# Altium footprint library PCB1_1.PcbLib: 20 footprints (part 2 of 2)
Each footprint in its own frame and in the unit in brackets; x right, y up, seen from the top. Pads: shape width x height; smd on the part's side, far side on the other; paste and mask are expansions set on the pad; w line width, h text height; cw(c..) or ccw(c..) is an arc to the next point about the centre after c.
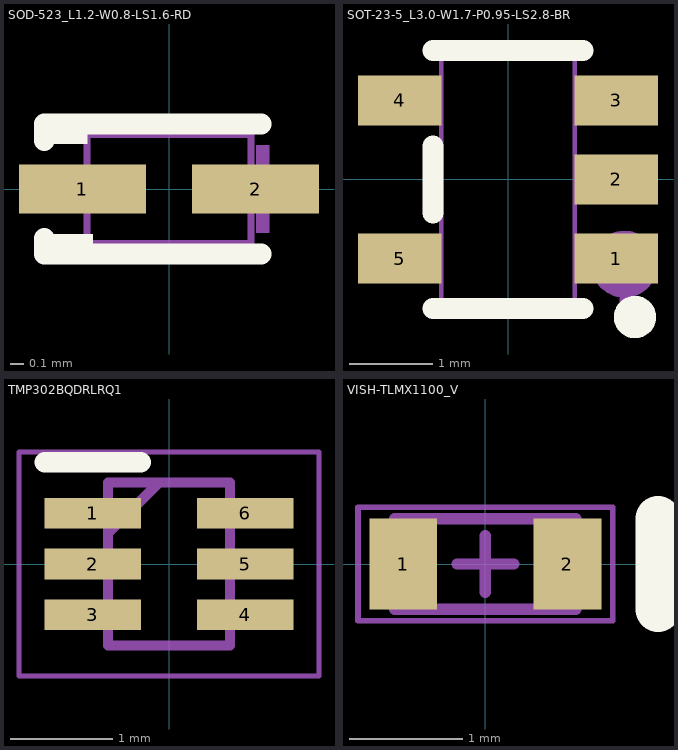
[diagram p1: the footprints below, top view; thin cyan lines are the x and y axes]

## SOD-523_L1.2-W0.8-LS1.6-RD [mm]
height 0.5
pads (2):
  rect 0.93x0.36 smd: 1(-0.635,0) 2(0.635,0)
Top Overlay:
  region: -0.6,0.552 -0.6,0.332 -0.905,0.332 -0.905,0.552
  region: -0.56,-0.552 -0.56,-0.332 -0.864,-0.332 -0.864,-0.552
  lines w0.152: -0.914,-0.363 -0.914,-0.476 -0.676,-0.476 0.676,-0.476 ; -0.914,0.356 -0.914,0.476 -0.676,0.476 0.676,0.476
Mechanical 6:
  region: -0.887,0.055 -0.887,-0.041 -0.503,-0.041 -0.503,0.055
  region: 0.88,0.048 0.88,-0.048 0.496,-0.048 0.496,0.048
  region: 0.736,0.32 0.736,-0.32 0.64,-0.32 0.64,0.32
Mechanical 15:
  region: -0.74,-0.4 -0.74,-0.376 -0.775,-0.341 -0.824,-0.341 -0.859,-0.375 -0.86,-0.4 -0.859,-0.424 -0.825,-0.459 -0.776,-0.459 -0.741,-0.424 -0.74,-0.4
  region: -0.8,-0.15 -0.8,0.15 -0.2,0.15 -0.2,-0.15
  region: 0.8,-0.15 0.8,0.15 0.2,0.15 0.2,-0.15
  lines w0.051: -0.6,-0.4 -0.6,0.4 0.6,0.4 0.6,-0.4 -0.6,-0.4

## SOT-23-5_L3.0-W1.7-P0.95-LS2.8-BR [mm]
height 0.5
pads (5):
  rect 1x0.6 smd: 1(1.3,-0.95) 2(1.3,0) 3(1.3,0.95) 4(-1.3,0.95) 5(-1.3,-0.95)
Top Overlay:
  circle w0.254: c1.524,-1.651 r0.127
  lines w0.254: -0.9,-1.55 0.9,-1.55 ; -0.9,-0.4 -0.9,0.4 ; -0.9,1.55 0.9,1.55
Mechanical 6:
  circle w0.4: c1.397,-1.016 r0.2
Mechanical 15:
  region: -1.4,-1.15 -1.4,-0.75 -0.95,-0.75 -0.95,-1.15
  region: -0.96,-1.15 -0.96,-0.75 -0.79,-0.75 -0.79,-1.15
  region: -1.4,0.75 -1.4,1.15 -0.95,1.15 -0.95,0.75
  region: -0.96,0.75 -0.96,1.15 -0.79,1.15 -0.79,0.75
  region: 0.95,0.75 0.95,1.15 1.4,1.15 1.4,0.75
  region: 0.79,0.75 0.79,1.15 0.96,1.15 0.96,0.75
  region: 0.95,-0.2 0.95,0.2 1.4,0.2 1.4,-0.2
  region: 0.79,-0.2 0.79,0.2 0.96,0.2 0.96,-0.2
  region: 0.95,-1.15 0.95,-0.75 1.4,-0.75 1.4,-1.15
  region: 0.79,-1.15 0.79,-0.75 0.96,-0.75 0.96,-1.15
  region: 1.46,-1.45 1.46,-1.425 1.425,-1.39 1.375,-1.39 1.34,-1.425 1.34,-1.45 1.34,-1.475 1.375,-1.51 1.425,-1.51 1.46,-1.475 1.46,-1.45
  lines w0.051: -0.8,-1.45 -0.8,1.45 0.8,1.45 0.8,-1.45 -0.8,-1.45

## TMP302BQDRLRQ1 [mm]
height 0.5
pads (6):
  rect 0.95x0.3 smd: 1(-0.75,0.5) 2(-0.75,0) 3(-0.75,-0.5) 4(0.75,-0.5) 5(0.75,0) 6(0.75,0.5)
Top Overlay:
  lines w0.2: -1.225,1 -0.275,1
Mechanical 15:
  lines w0.1: -0.6,0.3 -0.1,0.8 ; -0.6,-0.8 0.6,-0.8 0.6,0.8 -0.6,0.8 -0.6,-0.8
Mechanical 20:
  lines w0.05: -1.475,-1.1 1.475,-1.1 1.475,1.1 -1.475,1.1 -1.475,-1.1

## VISH-TLMX1100_V [mm] "SMD, 2-Leads, Body 1.6x0.8mm"
height 0.65
pads (2):
  rect 0.6x0.8 smd: 1(-0.725,0) 2(0.725,0)
Top Overlay:
  lines w0.4: 1.525,-0.4 1.525,0.4
Mechanical 13:
  lines w0.1: -0.8,-0.4 0.8,-0.4 0.8,0.4 -0.8,0.4 -0.8,-0.4
Mechanical 15:
  lines w0.05: -1.125,-0.5 -1.125,0.5 1.125,0.5 1.125,-0.5 -1.125,-0.5
  lines w0.1: -0.25,0 0.25,0 ; 0,-0.25 0,0.25
3D body: height 0.65, standoff 0, extent -0.8,-0.4 0.8,0.4